# EAGLE library part RC8CHAN (library crawler2)
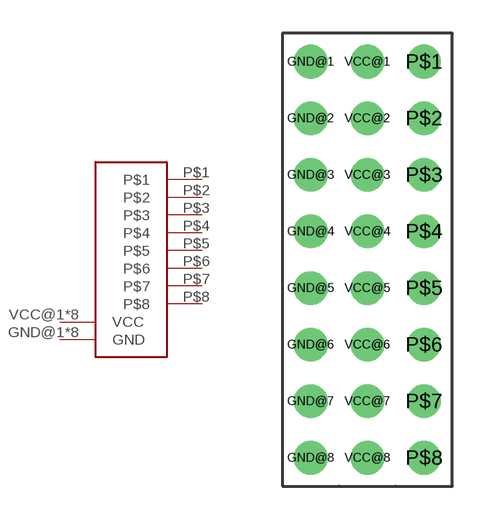
[diagram p3: symbol with the pads of RC8CHAN; footprint RC8CHAN]

Designator prefix -

## RC8CHAN  [RC8CHAN]
GND@1  GND  pwr
GND@2  GND  pwr
GND@3  GND  pwr
GND@4  GND  pwr
GND@5  GND  pwr
GND@6  GND  pwr
GND@7  GND  pwr
GND@8  GND  pwr
P$1  P$1
P$2  P$2
P$3  P$3
P$4  P$4
P$5  P$5
P$6  P$6
P$7  P$7
P$8  P$8
VCC@1  VCC  pwr
VCC@2  VCC  pwr
VCC@3  VCC  pwr
VCC@4  VCC  pwr
VCC@5  VCC  pwr
VCC@6  VCC  pwr
VCC@7  VCC  pwr
VCC@8  VCC  pwr

## Footprint RC8CHAN (pad centres in mm)
drill 1: GND@1 -2.54,8.89; GND@2 -2.54,6.35; GND@3 -2.54,3.81; GND@4 -2.54,1.27; GND@5 -2.54,-1.27; GND@6 -2.54,-3.81; GND@7 -2.54,-6.35; GND@8 -2.54,-8.89; P$1 2.54,8.89; P$2 2.54,6.35; P$3 2.54,3.81; P$4 2.54,1.27; P$5 2.54,-1.27; P$6 2.54,-3.81; P$7 2.54,-6.35; P$8 2.54,-8.89; VCC@1 0,8.89; VCC@2 0,6.35; VCC@3 0,3.81; VCC@4 0,1.27; VCC@5 0,-1.27; VCC@6 0,-3.81; VCC@7 0,-6.35; VCC@8 0,-8.89